# EAGLE library part MCP4822 (library seds)
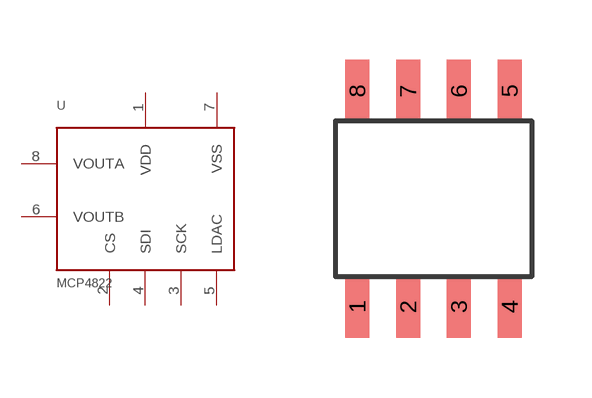
[diagram p1: symbol with the pads of MCP4822; footprint MCP4822]

Designator prefix -

## MCP4822  [MCP4822]
1  VDD
2  CS
3  SCK
4  SDI
5  LDAC
6  VOUTB
7  VSS
8  VOUTA

## Footprint MCP4822 (pad centres in mm)
smd 0.6 x 1.55: 1 -1.905,-2.7; 2 -0.635,-2.7; 3 0.635,-2.7; 4 1.905,-2.7; 5 1.905,2.7; 6 0.635,2.7; 7 -0.635,2.7; 8 -1.905,2.7